# Altium schematic symbol library WE-PD2_4532.SchLib: 1 symbol
Pins are listed as number, name and electrical type; pins without a type are passive.

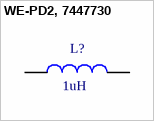
[diagram p0: symbol WE-PD2, 7447730]

## WE-PD2, 7447730
designator L?  value 1uH
FIXED IND 1UH 4A 49 MOHM SMD; PartNumber: 7447730; PublishedDate: Sep. 2016; Publisher: Wurth Elektronik; ComponentLink1Description: Manufacturer; ComponentLink1URL: http://www.we-online.de; ComponentLink2Description: Datasheet; ComponentLink2URL: http://katalog.we-online.de/pbs/datasheet/7447730.pdf; Size: 4532
footprint WE-PD2_4532
pins: 1, 2